# Altium schematic symbol library 122-2312-GR.SchLib: 1 symbol
Pins are listed as number, name and electrical type; pins without a type are passive.

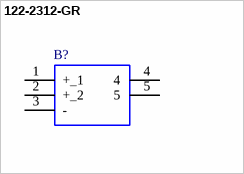
[diagram p0: symbol 122-2312-GR]

## 122-2312-GR
designator B?
Single Cell Holder; Manufacturer_Name: Eagle Plastic Devices; Geometry.Height: 5.4mm; Mouser Part Number: 122-2312-GR; Mouser Price/Stock: https://www.mouser.co.uk/ProductDetail/Eagle-Plastic-Devices/122-2312-GR?qs=OJcA7q8ZHwv5mHhRwvfAvw%3D%3D; Manufacturer_Part_Number: 122-2312-GR; Datasheet Link: *
footprint 1222312GR
pins: 1 +_1, 2 +_2, 3 -, 4, 5